# Altium footprint library RSB_TI.PcbLib: 1 footprints
Each footprint in its own frame and in the unit in brackets; x right, y up, seen from the top. Pads: shape width x height; smd on the part's side, far side on the other; paste and mask are expansions set on the pad; w line width, h text height; cw(c..) or ccw(c..) is an arc to the next point about the centre after c.
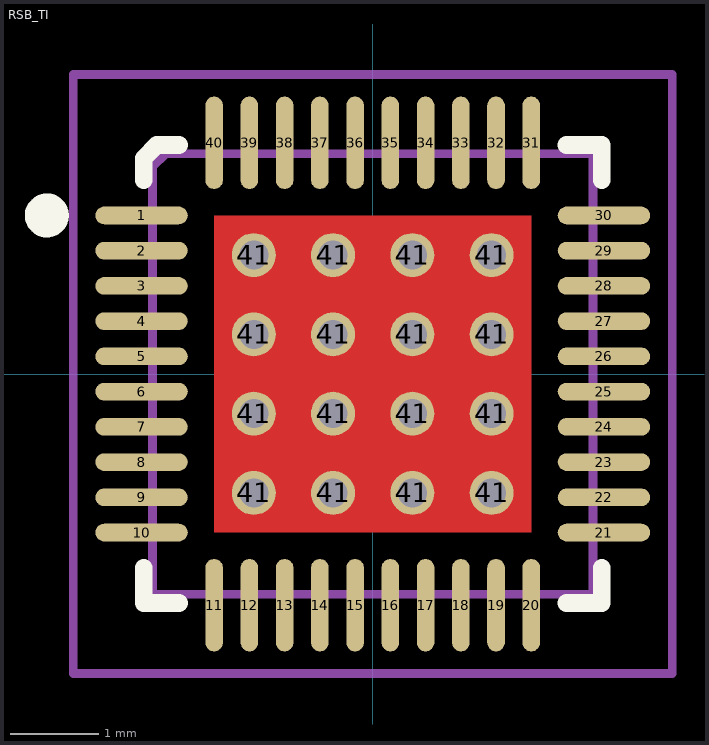
[diagram p0: the footprint, top view; thin cyan lines are the x and y axes]

## RSB_TI [mm]
height 0.8
pads (56):
  oval 1.05x0.2 smd mask+0.08: 1(-2.625,1.8) 2(-2.625,1.4) 3(-2.625,1) 4(-2.625,0.6) 5(-2.625,0.2) 6(-2.625,-0.2) 7(-2.625,-0.6) 8(-2.625,-1) 9(-2.625,-1.4) 10(-2.625,-1.8) 21(2.625,-1.8) 22(2.625,-1.4) 23(2.625,-1) 24(2.625,-0.6) 25(2.625,-0.2) 26(2.625,0.2) 27(2.625,0.6) 28(2.625,1) 29(2.625,1.4) 30(2.625,1.8)
  oval 0.2x1.05 smd mask+0.08: 11(-1.8,-2.625) 12(-1.4,-2.625) 13(-1,-2.625) 14(-0.6,-2.625) 15(-0.2,-2.625) 16(0.2,-2.625) 17(0.6,-2.625) 18(1,-2.625) 19(1.4,-2.625) 20(1.8,-2.625) 31(1.8,2.625) 32(1.4,2.625) 33(1,2.625) 34(0.6,2.625) 35(0.2,2.625) 36(-0.2,2.625) 37(-0.6,2.625) 38(-1,2.625) 39(-1.4,2.625) 40(-1.8,2.625)
  round 0.5 hole 0.33: 41(-1.35,-1.35) 41(-1.35,-0.45) 41(-1.35,0.45) 41(-1.35,1.35) 41(-0.45,-1.35) 41(-0.45,-0.45) 41(-0.45,0.45) 41(-0.45,1.35) 41(0.45,-1.35) 41(0.45,-0.45) 41(0.45,0.45) 41(0.45,1.35) 41(1.35,-1.35) 41(1.35,-0.45) 41(1.35,0.45) 41(1.35,1.35)
Top Layer:
  rectangle: -1.8,-1.8 1.8,1.8
Top Overlay:
  circle w0.25: c-3.7,1.8 r0.125
  lines w0.2: -2.6,-2.2 -2.6,-2.6 -2.2,-2.6 ; -2.6,2.2 -2.6,2.45 -2.45,2.6 -2.2,2.6 ; 2.2,-2.6 2.6,-2.6 2.6,-2.2 ; 2.2,2.6 2.6,2.6 2.6,2.2
Top Paste:
  region: -1.65,-0.15 -0.15,-0.15 -0.15,-1.65 -1.65,-1.65
  region: 0.15,-0.15 1.65,-0.15 1.65,-1.65 0.15,-1.65
  region: 0.15,1.65 1.65,1.65 1.65,0.15 0.15,0.15
  region: -1.65,1.65 -0.15,1.65 -0.15,0.15 -1.65,0.15
Top Solder:
  region: 0.1,1.7 1.7,1.7 1.7,0.1 0.1,0.1
  region: -1.7,-0.1 -0.1,-0.1 -0.1,-1.7 -1.7,-1.7
  region: -1.7,1.7 -0.1,1.7 -0.1,0.1 -1.7,0.1
  region: 0.1,-0.1 1.7,-0.1 1.7,-1.7 0.1,-1.7
Mechanical 13:
  lines w0.1: -2.5,-2.5 2.5,-2.5 2.5,2.5 -2.35,2.5 -2.5,2.35 -2.5,-2.5
Mechanical 15:
  lines w0.1: -0.5,0 0.5,0 ; 0,-0.5 0,0.5 ; -3.4,-3.4 3.4,-3.4 3.4,3.4 -3.4,3.4 -3.4,-3.4
3D body: height 0.75, standoff 0, extent -2.5,-2.5 2.52,2.52